# Altium integrated library Cypress PLD Delta39K.IntLib: 82 symbols (part 21 of 21)
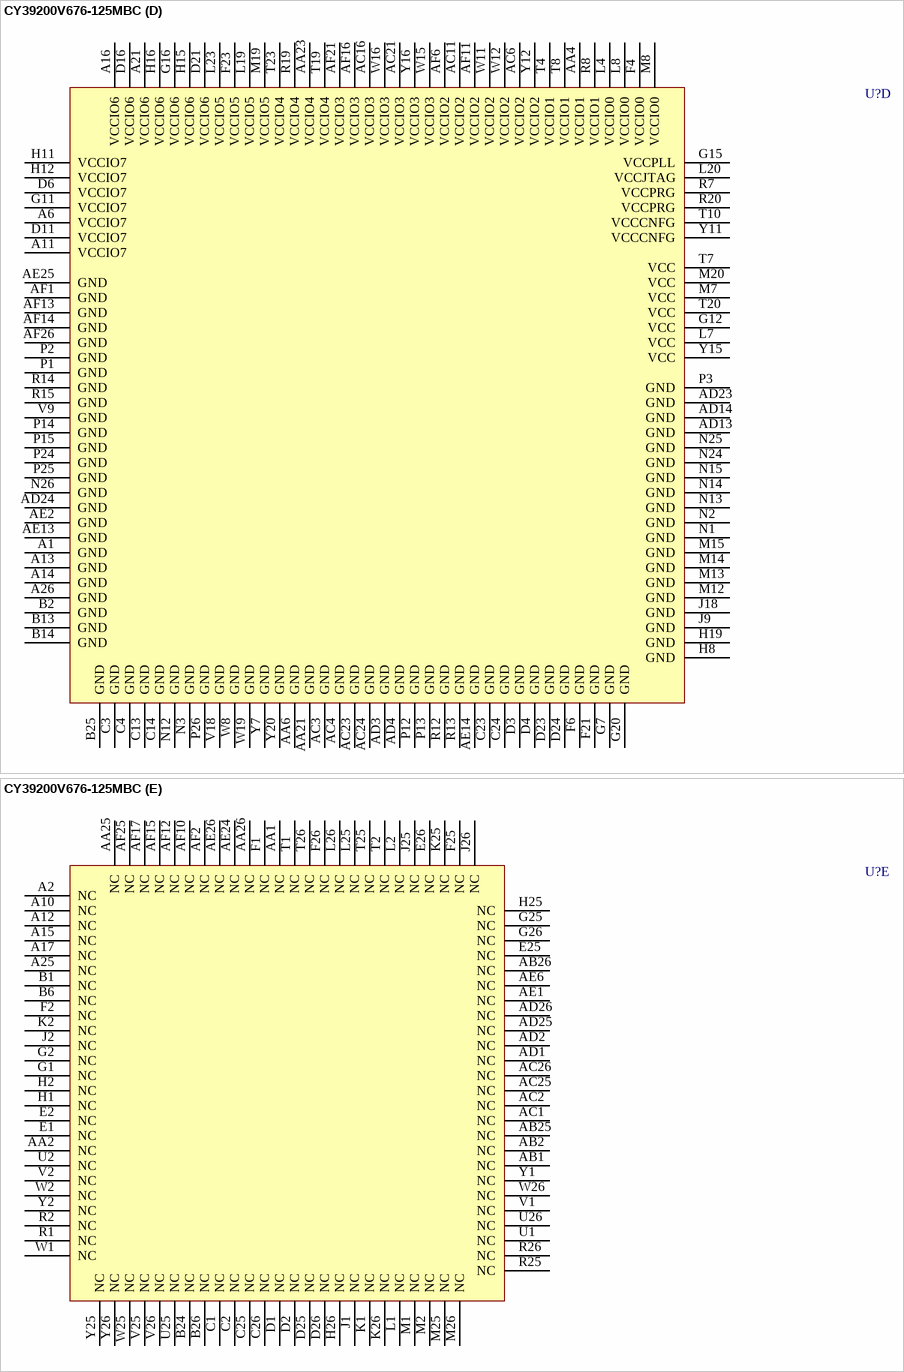
[diagram p98: symbol CY39200V676-125MBC]

## CY39200V676-125MBC
designator U?
Delta39K ISR CPLD, 3.3V/2.5V, 200K Gates, 125 MHz, 676-Ball FBGA, Commercial Grade; ComponentAvailability: Obsolete; Published: 11-Dec-2002; LatestRevisionDate: 13-Apr-2006; LatestRevisionNote: IPC-7351 Footprint Added.; DatasheetVersion: revI, Mar-2005; PackageVersion: Mar-2005; PackageReference: MB676; Publisher: Altium Limited; PackageDescription: 676-Ball Fine Pitch Ball Grid Array 1 mm Pitch; ComponentLink1Description: Manufacturer Link; ComponentLink1URL: http://www.cypress.com/; ComponentLink2Description: Datasheet; ComponentLink2URL: http://www.cypress.com/portal/server.pt/gateway/PTARGS_0_601270_1522_209_0_43/http%3B/sjapp20.mis.cypress.com%3B7001/publishedcontent/publish/design_resources/datasheets/contents/cy39030v_5.pdf
footprint MB676 (BGA, 676-Leads, Body 27x27mm, Pitch 1mm)
3D model CY39200V676-MB676 (676-Ball Fine Pitch Ball Grid Array 1 mm Pitch)
part A pins: A18 IO6 (io) "IO for Bank 6", A19 IO6 (io) "IO for Bank 6", A20 IO6 (io) "IO for Bank 6", A22 IO6 (io) "IO for Bank 6", A23 IO6 (io) "IO for Bank 6", A24 IO6 (io) "IO for Bank 6", AA8 IO2 (io) "IO for Bank 2", AA9 IO2 (io) "IO for Bank 2", AA10 IO2 (io) "IO for Bank 2", AA13 IO2 (io) "IO for Bank 2", AA14 IO2 (io) "IO for Bank 2", AA22 IO4 (io) "IO for Bank 4", AB3 IO2 (io) "IO for Bank 2", AB4 IO2 (io) "IO for Bank 2", AB5 IO2 (io) "IO for Bank 2", AB6 IO2 (io) "IO for Bank 2", AB7 IO2 (io) "IO for Bank 2", AB8 IO2 (io) "IO for Bank 2", AB9 IO2 (io) "IO for Bank 2", AB10 IO2 (io) "IO for Bank 2", AB11 IO2 (io) "IO for Bank 2", AB13 IO2 (io) "IO for Bank 2", AC5 IO2 (io) "IO for Bank 2", AC8 IO2 (io) "IO for Bank 2", AC9 IO2 (io) "IO for Bank 2", AC10 IO2 (io) "IO for Bank 2", AC12 IO2 (io) "IO for Bank 2", AC13 IO2 (io) "IO for Bank 2", AD7 IO2 (io) "IO for Bank 2", AD8 IO2 (io) "IO for Bank 2", AD9 IO2 (io) "IO for Bank 2", AD10 IO2 (io) "IO for Bank 2", AD11 IO2 (io) "IO for Bank 2", AD12 IO2 (io) "IO for Bank 2", AE3 IO2 (io) "IO for Bank 2", AE4 IO2 (io) "IO for Bank 2", AE5 IO2 (io) "IO for Bank 2", AE7 IO2 (io) "IO for Bank 2", AE8 IO2 (io) "IO for Bank 2", AE9 IO2 (io) "IO for Bank 2", AE10 IO2 (io) "IO for Bank 2", AE11 IO2 (io) "IO for Bank 2", AE12 IO2 (io) "IO for Bank 2", AF3 IO2 (io) "IO for Bank 2", AF4 IO2 (io) "IO for Bank 2", AF5 IO2 (io) "IO for Bank 2", AF7 IO2 (io) "IO for Bank 2", AF8 IO2 (io) "IO for Bank 2", AF9 IO2 (io) "IO for Bank 2", B15 IO6 (io) "IO for Bank 6", B16 IO6 (io) "IO for Bank 6", B17 IO6 (io) "IO for Bank 6", B18 IO6 (io) "IO for Bank 6", B19 IO6 (io) "IO for Bank 6", B20 IO6 (io) "IO for Bank 6", B22 IO6 (io) "IO for Bank 6", B23 IO6 (io) "IO for Bank 6", C15 IO6 (io) "IO for Bank 6", C16 IO6 (io) "IO for Bank 6", C17 IO6 (io) "IO for Bank 6", C18 IO6 (io) "IO for Bank 6", C19 IO6 (io) "IO for Bank 6", C20 IO6 (io) "IO for Bank 6", C22 IO6 (io) "IO for Bank 6", D14 IO6 (io) "IO for Bank 6", D15 IO6 (io) "IO for Bank 6", D18 IO6 (io) "IO for Bank 6", D19 IO6 (io) "IO for Bank 6", D20 IO6 (io) "IO for Bank 6", D22 IO6 (io) "IO for Bank 6", E14 IO6 (io) "IO for Bank 6", E16 IO6 (io) "IO for Bank 6", E17 IO6 (io) "IO for Bank 6", E18 IO6 (io) "IO for Bank 6", E19 IO6 (io) "IO for Bank 6", E20 IO6 (io) "IO for Bank 6", E21 IO6 (io) "IO for Bank 6", E22 IO6 (io) "IO for Bank 6", E23 IO6 (io) "IO for Bank 6", E24 IO6 (io) "IO for Bank 6", F5 IO0 (io) "IO for Bank 0", F13 IO6/Lock (io) "IO in Bank 6 or PLL lock output signal", F14 IO6 (io) "IO for Bank 6", F17 IO6 (io) "IO for Bank 6", F18 IO6 (io) "IO for Bank 6", F19 IO6 (io) "IO for Bank 6", F20 IO6 (io) "IO for Bank 6", G3 IO0 (io) "IO for Bank 0", G4 IO0 (io) "IO for Bank 0", G5 IO0 (io) "IO for Bank 0", G6 IO0 (io) "IO for Bank 0", G17 IO6 (io) "IO for Bank 6", G18 IO6 (io) "IO for Bank 6", G19 IO6 (io) "IO for Bank 6", H3 IO0 (io) "IO for Bank 0", H4 IO0 (io) "IO for Bank 0", H5 IO0 (io) "IO for Bank 0", H6 IO0 (io) "IO for Bank 0", H7 IO0 (io) "IO for Bank 0", H14 IO6 (io) "IO for Bank 6", H17 IO6 (io) "IO for Bank 6", H18 IO6 (io) "IO for Bank 6", J3 IO0 (io) "IO for Bank 0", J4 IO0 (io) "IO for Bank 0", J5 IO0 (io) "IO for Bank 0", J6 IO0 (io) "IO for Bank 0", J7 IO0 (io) "IO for Bank 0", J8 IO0 (io) "IO for Bank 0", J14 IO6 (io) "IO for Bank 6", J15 IO6 (io) "IO for Bank 6", J17 IO6 (io) "IO for Bank 6", K3 IO0 (io) "IO for Bank 0", K4 IO0 (io) "IO for Bank 0", K5 IO0 (io) "IO for Bank 0", K6 IO0 (io) "IO for Bank 0", K7 IO0 (io) "IO for Bank 0", K8 IO0 (io) "IO for Bank 0", K9 IO0 (io) "IO for Bank 0", K14 IO6 (io) "IO for Bank 6", K15 IO6 (io) "IO for Bank 6", K16 IO6 (io) "IO for Bank 6", L6 IO0 (io) "IO for Bank 0", L10 IO0 (io) "IO for Bank 0", M3 IO0 (io) "IO for Bank 0", M4 IO0 (io) "IO for Bank 0", M5 IO0 (io) "IO for Bank 0", M6 IO0 (io) "IO for Bank 0", M10 IO0 (io) "IO for Bank 0", N4 IO0 (io) "IO for Bank 0", N5 IO0 (io) "IO for Bank 0", N6 IO0 (io) "IO for Bank 0", N7 IO0 (io) "IO for Bank 0", N8 IO0 (io) "IO for Bank 0", N10 IO0 (io) "IO for Bank 0", P16 IO4 (io) "IO for Bank 4", P17 IO4 (io) "IO for Bank 4", P18 IO4 (io) "IO for Bank 4", P19 IO4 (io) "IO for Bank 4", P22 IO4 (io) "IO for Bank 4", P23 IO4 (io) "IO for Bank 4", R16 IO4 (io) "IO for Bank 4", R17 IO4 (io) "IO for Bank 4", R21 IO4 (io) "IO for Bank 4", R22 IO4 (io) "IO for Bank 4", R23 IO4 (io) "IO for Bank 4", R24 IO4 (io) "IO for Bank 4", T12 IO2 (io) "IO for Bank 2", T13 IO2 (io) "IO for Bank 2", T17 IO4 (io) "IO for Bank 4", T21 IO4 (io) "IO for Bank 4", U11 IO2 (io) "IO for Bank 2", U12 IO2 (io) "IO for Bank 2", U13 IO2 (io) "IO for Bank 2", U18 IO4 (io) "IO for Bank 4", U19 IO4 (io) "IO for Bank 4", U20 IO4 (io) "IO for Bank 4", U21 IO4 (io) "IO for Bank 4", U22 IO4 (io) "IO for Bank 4", U23 IO4 (io) "IO for Bank 4", U24 IO4 (io) "IO for Bank 4", V13 IO2 (io) "IO for Bank 2", V19 IO4 (io) "IO for Bank 4", V20 IO4 (io) "IO for Bank 4", V22 IO4 (io) "IO for Bank 4", V23 IO4 (io) "IO for Bank 4", V24 IO4 (io) "IO for Bank 4", W10 IO2 (io) "IO for Bank 2", W13 IO2 (io) "IO for Bank 2", W14 IO2 (io) "IO for Bank 2", W20 IO4 (io) "IO for Bank 4", W21 IO4 (io) "IO for Bank 4", W22 IO4 (io) "IO for Bank 4", W23 IO4 (io) "IO for Bank 4", W24 IO4 (io) "IO for Bank 4", Y9 IO2 (io) "IO for Bank 2", Y10 IO2 (io) "IO for Bank 2", Y13 IO2 (io) "IO for Bank 2", Y14 IO2 (io) "IO for Bank 2", Y21 IO4 (io) "IO for Bank 4", Y22 IO4 (io) "IO for Bank 4", Y23 IO4 (io) "IO for Bank 4", Y24 IO4 (io) "IO for Bank 4"
part B pins: A3 IO7 (io) "IO for Bank 7", A4 IO7 (io) "IO for Bank 7", A5 IO7 (io) "IO for Bank 7", A7 IO7 (io) "IO for Bank 7", A8 IO7 (io) "IO for Bank 7", A9 IO7 (io) "IO for Bank 7", AA5 IO1 (io) "IO for Bank 1", AA17 IO3 (io) "IO for Bank 3", AA18 IO3 (io) "IO for Bank 3", AA19 IO3 (io) "IO for Bank 3", AA20 IO3 (io) "IO for Bank 3", AB14 IO3 (io) "IO for Bank 3", AB16 IO3 (io) "IO for Bank 3", AB17 IO3 (io) "IO for Bank 3", AB18 IO3 (io) "IO for Bank 3", AB19 IO3 (io) "IO for Bank 3", AB20 IO3 (io) "IO for Bank 3", AB21 IO3 (io) "IO for Bank 3", AB22 IO3 (io) "IO for Bank 3", AB23 IO3 (io) "IO for Bank 3", AB24 IO3 (io) "IO for Bank 3", AC14 IO3 (io) "IO for Bank 3", AC15 IO3 (io) "IO for Bank 3", AC17 IO3 (io) "IO for Bank 3", AC18 IO3 (io) "IO for Bank 3", AC19 IO3 (io) "IO for Bank 3", AC22 IO3 (io) "IO for Bank 3", AD15 IO3 (io) "IO for Bank 3", AD16 IO3 (io) "IO for Bank 3", AD17 IO3 (io) "IO for Bank 3", AD18 IO3 (io) "IO for Bank 3", AD19 IO3 (io) "IO for Bank 3", AD20 IO3 (io) "IO for Bank 3", AD22 IO3 (io) "IO for Bank 3", AE15 IO3 (io) "IO for Bank 3", AE16 IO3 (io) "IO for Bank 3", AE17 IO3 (io) "IO for Bank 3", AE18 IO3 (io) "IO for Bank 3", AE19 IO3 (io) "IO for Bank 3", AE20 IO3 (io) "IO for Bank 3", AE22 IO3 (io) "IO for Bank 3", AE23 IO3 (io) "IO for Bank 3", AF18 IO3 (io) "IO for Bank 3", AF19 IO3 (io) "IO for Bank 3", AF20 IO3 (io) "IO for Bank 3", AF22 IO3 (io) "IO for Bank 3", AF23 IO3 (io) "IO for Bank 3", AF24 IO3 (io) "IO for Bank 3", B3 IO7 (io) "IO for Bank 7", B4 IO7 (io) "IO for Bank 7", B5 IO7 (io) "IO for Bank 7", B7 IO7 (io) "IO for Bank 7", B8 IO7 (io) "IO for Bank 7", B9 IO7 (io) "IO for Bank 7", B10 IO7 (io) "IO for Bank 7", B11 IO7 (io) "IO for Bank 7", B12 IO7 (io) "IO for Bank 7", C7 IO7 (io) "IO for Bank 7", C8 IO7 (io) "IO for Bank 7", C9 IO7 (io) "IO for Bank 7", C10 IO7 (io) "IO for Bank 7", C11 IO7 (io) "IO for Bank 7", C12 IO7 (io) "IO for Bank 7", D5 IO7 (io) "IO for Bank 7", D7 IO7 (io) "IO for Bank 7", D8 IO7 (io) "IO for Bank 7", D9 IO7 (io) "IO for Bank 7", D12 IO7 (io) "IO for Bank 7", D13 IO7 (io) "IO for Bank 7", E3 IO7 (io) "IO for Bank 7", E4 IO7 (io) "IO for Bank 7", E5 IO7 (io) "IO for Bank 7", E6 IO7 (io) "IO for Bank 7", E7 IO7 (io) "IO for Bank 7", E8 IO7 (io) "IO for Bank 7", E9 IO7 (io) "IO for Bank 7", E10 IO7 (io) "IO for Bank 7", E11 IO7 (io) "IO for Bank 7", E13 IO7 (io) "IO for Bank 7", F7 IO7 (io) "IO for Bank 7", F8 IO7 (io) "IO for Bank 7", F9 IO7 (io) "IO for Bank 7", F10 IO7 (io) "IO for Bank 7", F22 IO5 (io) "IO for Bank 5", G8 IO7 (io) "IO for Bank 7", G9 IO7 (io) "IO for Bank 7", G10 IO7 (io) "IO for Bank 7", G22 IO5 (io) "IO for Bank 5", G23 IO5 (io) "IO for Bank 5", G24 IO5 (io) "IO for Bank 5", H9 IO7 (io) "IO for Bank 7", H10 IO7 (io) "IO for Bank 7", H13 IO7 (io) "IO for Bank 7", H21 IO5 (io) "IO for Bank 5", H22 IO5 (io) "IO for Bank 5", H23 IO5 (io) "IO for Bank 5", H24 IO5 (io) "IO for Bank 5", J10 IO7 (io) "IO for Bank 7", J12 IO7 (io) "IO for Bank 7", J13 IO7 (io) "IO for Bank 7", J20 IO5 (io) "IO for Bank 5", J21 IO5 (io) "IO for Bank 5", J22 IO5 (io) "IO for Bank 5", J23 IO5 (io) "IO for Bank 5", J24 IO5 (io) "IO for Bank 5", K10 IO7 (io) "IO for Bank 7", K11 IO7 (io) "IO for Bank 7", K12 IO7 (io) "IO for Bank 7", K13 IO7 (io) "IO for Bank 7", K18 IO5 (io) "IO for Bank 5", K19 IO5 (io) "IO for Bank 5", K20 IO5 (io) "IO for Bank 5", K21 IO5 (io) "IO for Bank 5", K22 IO5 (io) "IO for Bank 5", K23 IO5 (io) "IO for Bank 5", K24 IO5 (io) "IO for Bank 5", L11 IO7 (io) "IO for Bank 7", L16 IO5 (io) "IO for Bank 5", L17 IO5 (io) "IO for Bank 5", L21 IO5 (io) "IO for Bank 5", M17 IO5 (io) "IO for Bank 5", M21 IO5 (io) "IO for Bank 5", M22 IO5 (io) "IO for Bank 5", M23 IO5 (io) "IO for Bank 5", M24 IO5 (io) "IO for Bank 5", N17 IO5 (io) "IO for Bank 5", N19 IO5 (io) "IO for Bank 5", N20 IO5 (io) "IO for Bank 5", N21 IO5 (io) "IO for Bank 5", N22 IO5 (io) "IO for Bank 5", N23 IO5 (io) "IO for Bank 5", P4 IO1 (io) "IO for Bank 1", P5 IO1 (io) "IO for Bank 1", P6 IO1 (io) "IO for Bank 1", P7 IO1 (io) "IO for Bank 1", P8 IO1 (io) "IO for Bank 1", P9 IO1 (io) "IO for Bank 1", P10 IO1 (io) "IO for Bank 1", P11 IO1 (io) "IO for Bank 1", P20 IO5 (io) "IO for Bank 5", P21 IO5 (io) "IO for Bank 5", R3 IO1 (io) "IO for Bank 1", R4 IO1 (io) "IO for Bank 1", R5 IO1 (io) "IO for Bank 1", R6 IO1 (io) "IO for Bank 1", R10 IO1 (io) "IO for Bank 1", R11 IO1 (io) "IO for Bank 1", T6 IO1 (io) "IO for Bank 1", T14 IO3 (io) "IO for Bank 3", T15 IO3 (io) "IO for Bank 3", T16 IO3 (io) "IO for Bank 3", U3 IO1 (io) "IO for Bank 1", U4 IO1 (io) "IO for Bank 1", U5 IO1 (io) "IO for Bank 1", U6 IO1 (io) "IO for Bank 1", U7 IO1 (io) "IO for Bank 1", U8 IO1 (io) "IO for Bank 1", U14 IO3 (io) "IO for Bank 3", U15 IO3 (io) "IO for Bank 3", U16 IO3 (io) "IO for Bank 3", U17 IO3 (io) "IO for Bank 3", V3 IO1 (io) "IO for Bank 1", V4 IO1 (io) "IO for Bank 1", V5 IO1 (io) "IO for Bank 1", V7 IO1 (io) "IO for Bank 1", V8 IO1 (io) "IO for Bank 1", V14 IO3 (io) "IO for Bank 3", V17 IO3 (io) "IO for Bank 3", W3 IO1 (io) "IO for Bank 1", W4 IO1 (io) "IO for Bank 1", W5 IO1 (io) "IO for Bank 1", W6 IO1 (io) "IO for Bank 1", W7 IO1 (io) "IO for Bank 1", W17 IO3 (io) "IO for Bank 3", W18 IO3 (io) "IO for Bank 3", Y3 IO1 (io) "IO for Bank 1", Y4 IO1 (io) "IO for Bank 1", Y5 IO1 (io) "IO for Bank 1", Y6 IO1 (io) "IO for Bank 1", Y17 IO3 (io) "IO for Bank 3", Y18 IO3 (io) "IO for Bank 3", Y19 IO3 (io) "IO for Bank 3"
part C pins: AA3 IO/VREF1 (io) "IO or Reference Voltage for Bank 1", AA7 Reset (out) "Reset signal to interface with the external boot PROM", AA11 IO/VREF2 (io) "IO or Reference Voltage for Bank 2", AA12 IO/VREF2 (io) "IO or Reference Voltage for Bank 2", AA15 IO/VREF3 (io) "IO or Reference Voltage for Bank 3", AA16 IO/VREF3 (io) "IO or Reference Voltage for Bank 3", AA24 IO/VREF4 (io) "IO or Reference Voltage for Bank 4", AB12 IO/VREF2 (io) "IO or Reference Voltage for Bank 2", AB15 IO/VREF3 (io) "IO or Reference Voltage for Bank 3", AC7 IO/VREF2 (io) "IO or Reference Voltage for Bank 2", AC20 IO/VREF3 (io) "IO or Reference Voltage for Bank 3", AD5 IO/VREF2 (io) "IO or Reference Voltage for Bank 2", AD6 IO/VREF2 (io) "IO or Reference Voltage for Bank 2", AD21 IO/VREF3 (io) "IO or Reference Voltage for Bank 3", AE21 IO/VREF3 (io) "IO or Reference Voltage for Bank 3", B21 IO/VREF6 (io) "IO or Reference Voltage for Bank 6", C5 IO/VREF7 (io) "IO or Reference Voltage for Bank 7", C6 IO/VREF7 (io) "IO or Reference Voltage for Bank 7", C21 IO/VREF6 (io) "IO or Reference Voltage for Bank 6", D10 IO/VREF7 (io) "IO or Reference Voltage for Bank 7", D17 IO/VREF6 (io) "IO or Reference Voltage for Bank 6", E12 IO/VREF7 (io) "IO or Reference Voltage for Bank 7", E15 IO/VREF6 (io) "IO or Reference Voltage for Bank 6", F3 IO/VREF0 (io) "IO or Reference Voltage for Bank 0", F11 IO/VREF7 (io) "IO or Reference Voltage for Bank 7", F12 IO/VREF7 (io) "IO or Reference Voltage for Bank 7", F15 IO/VREF6 (io) "IO or Reference Voltage for Bank 6", F16 IO/VREF6 (io) "IO or Reference Voltage for Bank 6", F24 IO/VREF5 (io) "IO or Reference Voltage for Bank 5", G13 IO/VREF7 (io) "IO or Reference Voltage for Bank 7", G14 IO/VREF6 (io) "IO or Reference Voltage for Bank 6", G21 TDO (out) "JTAG Test Data Out", H20 TDI (in) "JTAG Test Data In", J11 IO/VREF7 (io) "IO or Reference Voltage for Bank 7", J16 IO/VREF6 (io) "IO or Reference Voltage for Bank 6", J19 TCLK (in) "JTAG Test Clock", K17 TMS (in) "JTAG Test Mode Select", L3 IO/VREF0 (io) "IO or Reference Voltage for Bank 0", L5 IO/VREF0 (io) "IO or Reference Voltage for Bank 0", L9 IO/VREF0 (io) "IO or Reference Voltage for Bank 0", L12 GCTL3 (in) "Global Control signal 3", L13 GCLK3 (in) "Global Clock signal 3", L14 GCTL2 (in) "Global Control signal 2", L15 GCLK2 (in) "Global Clock signal 2", L18 IO/VREF5 (io) "IO or Reference Voltage for Bank 5", L22 IO/VREF5 (io) "IO or Reference Voltage for Bank 5", L24 IO/VREF5 (io) "IO or Reference Voltage for Bank 5", M9 IO/VREF0 (io) "IO or Reference Voltage for Bank 0", M11 GCTL0 (in) "Global Control signal 0", M16 GCTL1 (in) "Global Control signal 1", M18 IO/VREF5 (io) "IO or Reference Voltage for Bank 5", N9 IO/VREF0 (io) "IO or Reference Voltage for Bank 0", N11 GCLK0 (in) "Global Clock signal 0", N16 GCLK1 (in) "Global Clock signal 1", N18 IO/VREF5 (io) "IO or Reference Voltage for Bank 5", R9 IO/VREF1 (io) "IO or Reference Voltage for Bank 1", R18 IO/VREF4 (io) "IO or Reference Voltage for Bank 4", T3 IO/VREF1 (io) "IO or Reference Voltage for Bank 1", T5 IO/VREF1 (io) "IO or Reference Voltage for Bank 1", T9 IO/VREF1 (io) "IO or Reference Voltage for Bank 1", T11 Config_Done (out) "Flag indicating that configuration is complete", T18 IO/VREF4 (io) "IO or Reference Voltage for Bank 4", T22 IO/VREF4 (io) "IO or Reference Voltage for Bank 4", T24 IO/VREF4 (io) "IO or Reference Voltage for Bank 4", U9 Data (in) "Pin to receive configuration data from the external boot PROM", U10 Reconfig (in) "Pin to start configuration of Delta39K", V6 IO/VREF1 (io) "IO or Reference Voltage for Bank 1", V10 MSEL (in) "Mode Select Pin", V11 IO/VREF2 (io) "IO or Reference Voltage for Bank 2", V12 IO/VREF2 (io) "IO or Reference Voltage for Bank 2", V15 IO/VREF3 (io) "IO or Reference Voltage for Bank 3", V16 IO/VREF3 (io) "IO or Reference Voltage for Bank 3", V21 IO/VREF4 (io) "IO or Reference Voltage for Bank 4", W9 ~{CCE} (out) "Chip select for the external boot PROM (active low)", Y8 CCLK (out) "Configuration Clock for serial interface with the external boot PROM"
part D pins: A1 GND (power) "Ground", A6 VCCIO7 (power) "VCC for I/O bank 7", A11 VCCIO7 (power) "VCC for I/O bank 7", A13 GND (power) "Ground", A14 GND (power) "Ground", A16 VCCIO6 (power) "VCC for I/O bank 6", A21 VCCIO6 (power) "VCC for I/O bank 6", A26 GND (power) "Ground", AA4 VCCIO1 (power) "VCC for I/O bank 1", AA6 GND (power) "Ground", AA21 GND (power) "Ground", AA23 VCCIO4 (power) "VCC for I/O bank 4", AC3 GND (power) "Ground", AC4 GND (power) "Ground", AC6 VCCIO2 (power) "VCC for I/O bank 2", AC11 VCCIO2 (power) "VCC for I/O bank 2", AC16 VCCIO3 (power) "VCC for I/O bank 3", AC21 VCCIO3 (power) "VCC for I/O bank 3", AC23 GND (power) "Ground", AC24 GND (power) "Ground", AD3 GND (power) "Ground", AD4 GND (power) "Ground", AD13 GND (power) "Ground", AD14 GND (power) "Ground", AD23 GND (power) "Ground", AD24 GND (power) "Ground", AE2 GND (power) "Ground", AE13 GND (power) "Ground", AE14 GND (power) "Ground", AE25 GND (power) "Ground", AF1 GND (power) "Ground", AF6 VCCIO2 (power) "VCC for I/O bank 2", AF11 VCCIO2 (power) "VCC for I/O bank 2", AF13 GND (power) "Ground", AF14 GND (power) "Ground", AF16 VCCIO3 (power) "VCC for I/O bank 3", AF21 VCCIO3 (power) "VCC for I/O bank 3", AF26 GND (power) "Ground", B2 GND (power) "Ground", B13 GND (power) "Ground", B14 GND (power) "Ground", B25 GND (power) "Ground", C3 GND (power) "Ground", C4 GND (power) "Ground", C13 GND (power) "Ground", C14 GND (power) "Ground", C23 GND (power) "Ground", C24 GND (power) "Ground", D3 GND (power) "Ground", D4 GND (power) "Ground", D6 VCCIO7 (power) "VCC for I/O bank 7", D11 VCCIO7 (power) "VCC for I/O bank 7", D16 VCCIO6 (power) "VCC for I/O bank 6", D21 VCCIO6 (power) "VCC for I/O bank 6", D23 GND (power) "Ground", D24 GND (power) "Ground", F4 VCCIO0 (power) "VCC for I/O bank 0", F6 GND (power) "Ground", F21 GND (power) "Ground", F23 VCCIO5 (power) "VCC for I/O bank 5", G7 GND (power) "Ground", G11 VCCIO7 (power) "VCC for I/O bank 7", G12 VCC (power) "Operating Voltage", G15 VCCPLL (power) "VCC for PLL", G16 VCCIO6 (power) "VCC for I/O bank 6", G20 GND (power) "Ground", H8 GND (power) "Ground", H11 VCCIO7 (power) "VCC for I/O bank 7", H12 VCCIO7 (power) "VCC for I/O bank 7", H15 VCCIO6 (power) "VCC for I/O bank 6", H16 VCCIO6 (power) "VCC for I/O bank 6", H19 GND (power) "Ground", J9 GND (power) "Ground", J18 GND (power) "Ground", L4 VCCIO0 (power) "VCC for I/O bank 0", L7 VCC (power) "Operating Voltage", L8 VCCIO0 (power) "VCC for I/O bank 0", L19 VCCIO5 (power) "VCC for I/O bank 5", L20 VCCJTAG (power) "VCC for JTAG pins", L23 VCCIO5 (power) "VCC for I/O bank 5", M7 VCC (power) "Operating Voltage", M8 VCCIO0 (power) "VCC for I/O bank 0", M12 GND (power) "Ground", M13 GND (power) "Ground", M14 GND (power) "Ground", M15 GND (power) "Ground", M19 VCCIO5 (power) "VCC for I/O bank 5", M20 VCC (power) "Operating Voltage", N1 GND (power) "Ground", N2 GND (power) "Ground", N3 GND (power) "Ground", N12 GND (power) "Ground", N13 GND (power) "Ground", N14 GND (power) "Ground", N15 GND (power) "Ground", N24 GND (power) "Ground", N25 GND (power) "Ground", N26 GND (power) "Ground", P1 GND (power) "Ground", P2 GND (power) "Ground", P3 GND (power) "Ground", P12 GND (power) "Ground", P13 GND (power) "Ground", P14 GND (power) "Ground", P15 GND (power) "Ground", P24 GND (power) "Ground", P25 GND (power) "Ground", P26 GND (power) "Ground", R7 VCCPRG (power) "VCC for programming Self-Boot solution embedded boot PROM", R8 VCCIO1 (power) "VCC for I/O bank 1", R12 GND (power) "Ground", R13 GND (power) "Ground", R14 GND (power) "Ground", R15 GND (power) "Ground", R19 VCCIO4 (power) "VCC for I/O bank 4", R20 VCCPRG (power) "VCC for programming Self-Boot solution embedded boot PROM", T4 VCCIO1 (power) "VCC for I/O bank 1", T7 VCC (power) "Operating Voltage", T8 VCCIO1 (power) "VCC for I/O bank 1", T10 VCCCNFG (power) "VCC for Configuration port", T19 VCCIO4 (power) "VCC for I/O bank 4", T20 VCC (power) "Operating Voltage", T23 VCCIO4 (power) "VCC for I/O bank 4", V9 GND (power) "Ground", V18 GND (power) "Ground", W8 GND (power) "Ground", W11 VCCIO2 (power) "VCC for I/O bank 2", W12 VCCIO2 (power) "VCC for I/O bank 2", W15 VCCIO3 (power) "VCC for I/O bank 3", W16 VCCIO3 (power) "VCC for I/O bank 3", W19 GND (power) "Ground", Y7 GND (power) "Ground", Y11 VCCCNFG (power) "VCC for Configuration port", Y12 VCCIO2 (power) "VCC for I/O bank 2", Y15 VCC (power) "Operating Voltage", Y16 VCCIO3 (power) "VCC for I/O bank 3", Y20 GND (power) "Ground"
part E pins: A2 NC "No Connection", A10 NC "No Connection", A12 NC "No Connection", A15 NC "No Connection", A17 NC "No Connection", A25 NC "No Connection", AA1 NC "No Connection", AA2 NC "No Connection", AA25 NC "No Connection", AA26 NC "No Connection", AB1 NC "No Connection", AB2 NC "No Connection", AB25 NC "No Connection", AB26 NC "No Connection", AC1 NC "No Connection", AC2 NC "No Connection", AC25 NC "No Connection", AC26 NC "No Connection", AD1 NC "No Connection", AD2 NC "No Connection", AD25 NC "No Connection", AD26 NC "No Connection", AE1 NC "No Connection", AE6 NC "No Connection", AE24 NC "No Connection", AE26 NC "No Connection", AF2 NC "No Connection", AF10 NC "No Connection", AF12 NC "No Connection", AF15 NC "No Connection", AF17 NC "No Connection", AF25 NC "No Connection", B1 NC "No Connection", B6 NC "No Connection", B24 NC "No Connection", B26 NC "No Connection", C1 NC "No Connection", C2 NC "No Connection", C25 NC "No Connection", C26 NC "No Connection", D1 NC "No Connection", D2 NC "No Connection", D25 NC "No Connection", D26 NC "No Connection", E1 NC "No Connection", E2 NC "No Connection", E25 NC "No Connection", E26 NC "No Connection", F1 NC "No Connection", F2 NC "No Connection", F25 NC "No Connection", F26 NC "No Connection", G1 NC "No Connection", G2 NC "No Connection", G25 NC "No Connection", G26 NC "No Connection", H1 NC "No Connection", H2 NC "No Connection", H25 NC "No Connection", H26 NC "No Connection", J1 NC "No Connection", J2 NC "No Connection", J25 NC "No Connection", J26 NC "No Connection", K1 NC "No Connection", K2 NC "No Connection", K25 NC "No Connection", K26 NC "No Connection", L1 NC "No Connection", L2 NC "No Connection", L25 NC "No Connection", L26 NC "No Connection", M1 NC "No Connection", M2 NC "No Connection", M25 NC "No Connection", M26 NC "No Connection", R1 NC "No Connection", R2 NC "No Connection", R25 NC "No Connection", R26 NC "No Connection", T1 NC "No Connection", T2 NC "No Connection", T25 NC "No Connection", T26 NC "No Connection", U1 NC "No Connection", U2 NC "No Connection", U25 NC "No Connection", U26 NC "No Connection", V1 NC "No Connection", V2 NC "No Connection", V25 NC "No Connection", V26 NC "No Connection", W1 NC "No Connection", W2 NC "No Connection", W25 NC "No Connection", W26 NC "No Connection", Y1 NC "No Connection", Y2 NC "No Connection", Y25 NC "No Connection", Y26 NC "No Connection"

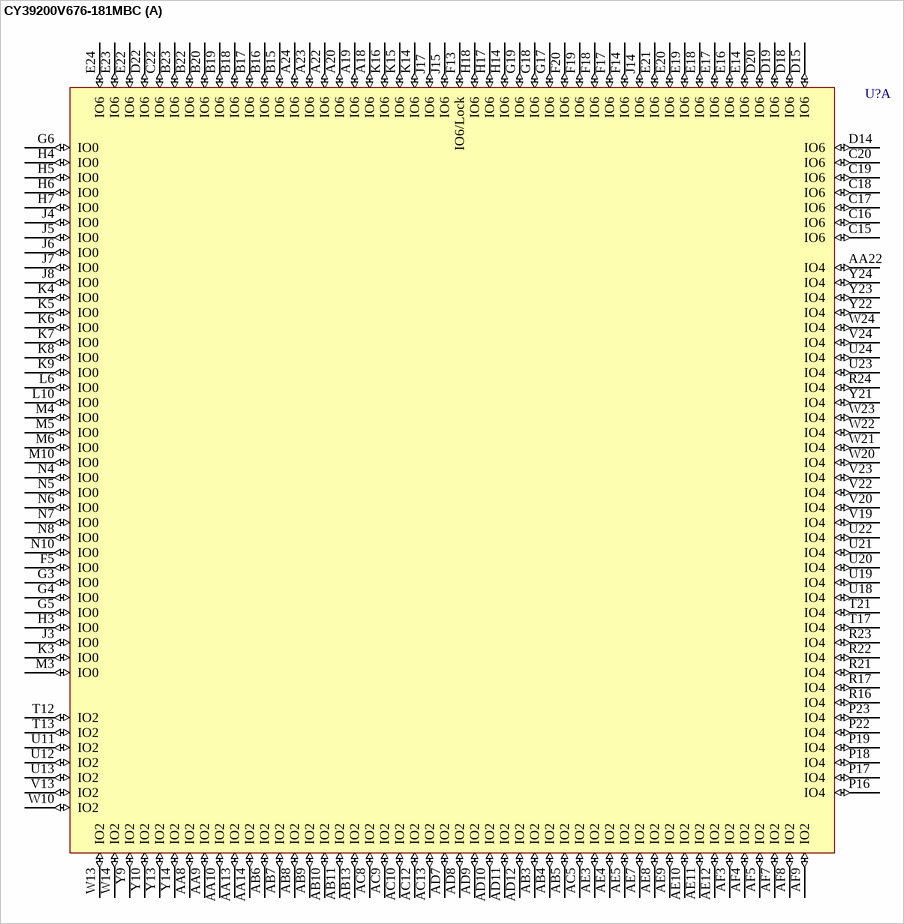
[diagram p76: symbol CY39200V676-181MBC]

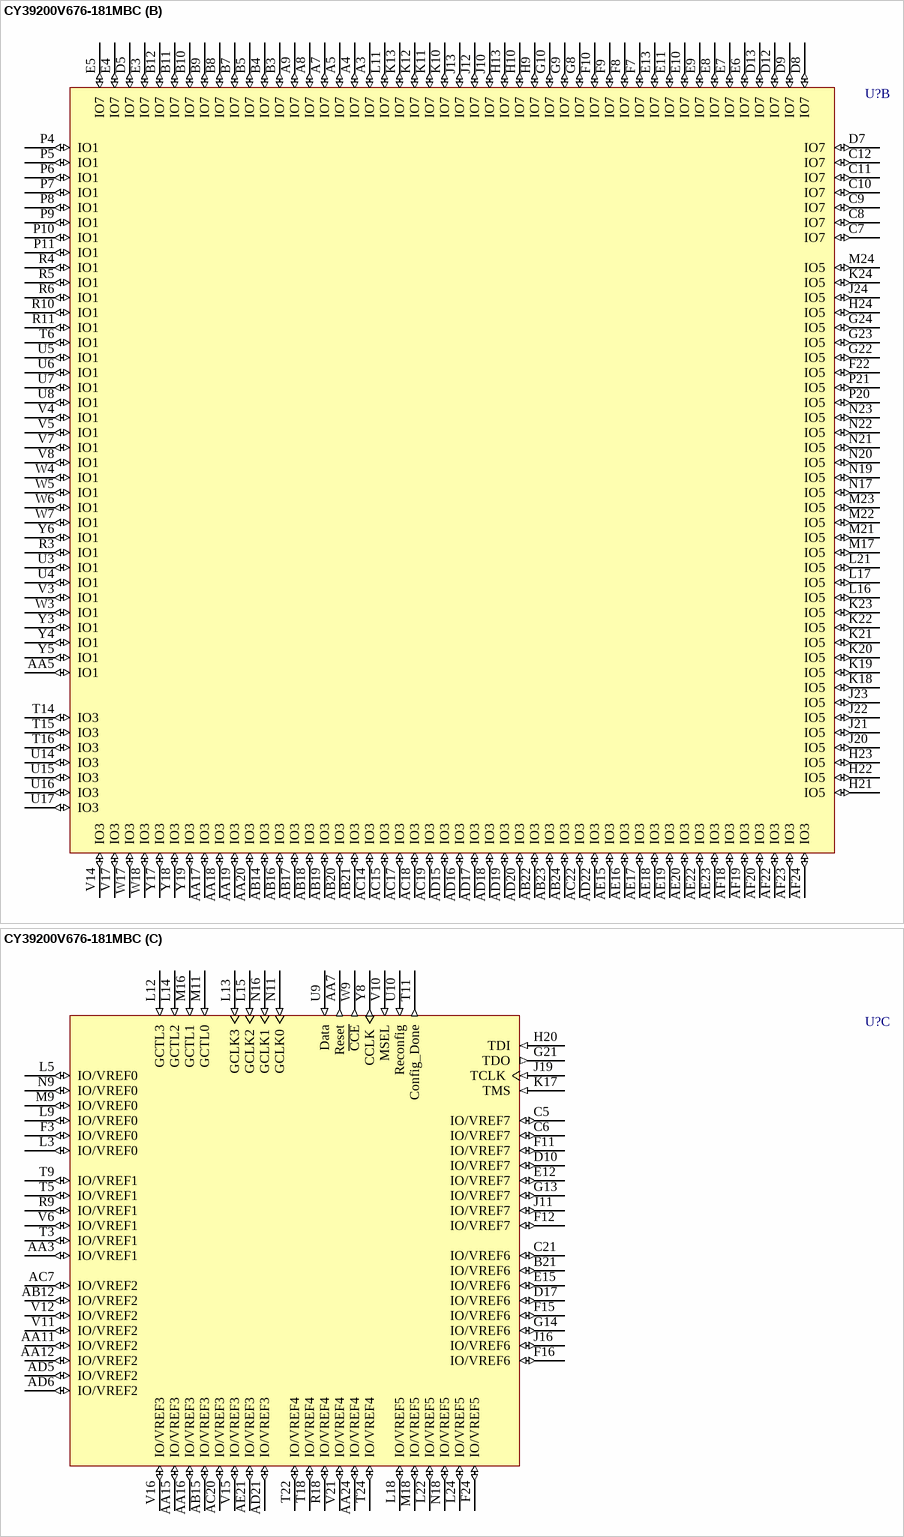
[diagram p77: symbol CY39200V676-181MBC]

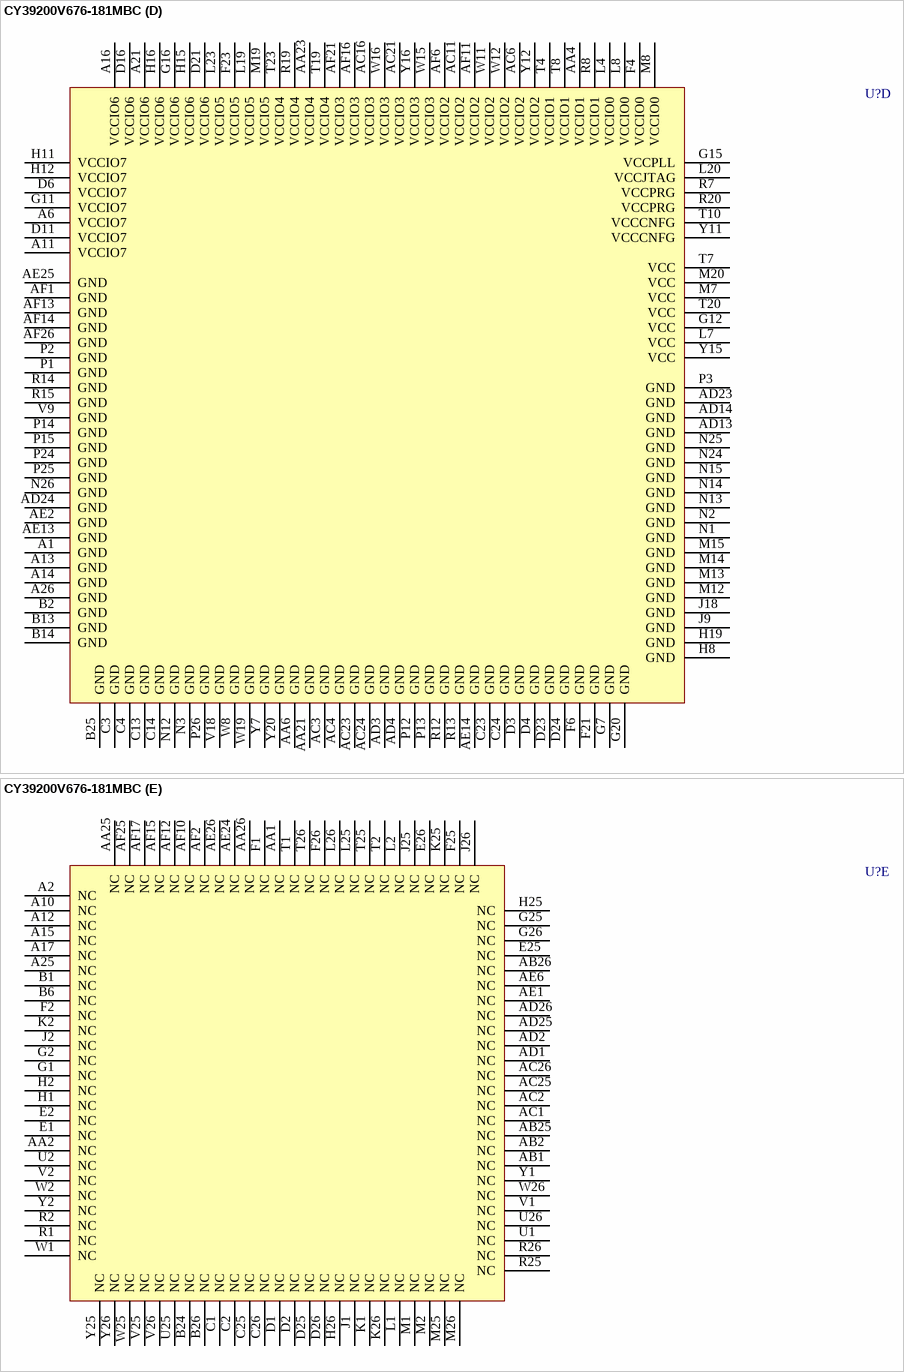
[diagram p78: symbol CY39200V676-181MBC]

## CY39200V676-181MBC
designator U?
Delta39K ISR CPLD, 3.3V/2.5V, 200K Gates, 181 MHz, 676-Ball FBGA, Commercial Grade; Published: 6-Oct-2005; LatestRevisionDate: 13-Apr-2006; LatestRevisionNote: IPC-7351 Footprint Added.; DatasheetVersion: revI, Mar-2005; PackageVersion: Mar-2005; PackageReference: MB676; Publisher: Altium Limited; PackageDescription: 676-Ball Fine Pitch Ball Grid Array 1 mm Pitch; ComponentLink1Description: Manufacturer Link; ComponentLink1URL: http://www.cypress.com/; ComponentLink2Description: Datasheet; ComponentLink2URL: http://www.cypress.com/portal/server.pt/gateway/PTARGS_0_601270_1522_209_0_43/http%3B/sjapp20.mis.cypress.com%3B7001/publishedcontent/publish/design_resources/datasheets/contents/cy39030v_5.pdf
footprint MB676 (BGA, 676-Leads, Body 27x27mm, Pitch 1mm)
3D model CY39200V676-MB676 (676-Ball Fine Pitch Ball Grid Array 1 mm Pitch)
part A pins: A18 IO6 (io) "IO for Bank 6", A19 IO6 (io) "IO for Bank 6", A20 IO6 (io) "IO for Bank 6", A22 IO6 (io) "IO for Bank 6", A23 IO6 (io) "IO for Bank 6", A24 IO6 (io) "IO for Bank 6", AA8 IO2 (io) "IO for Bank 2", AA9 IO2 (io) "IO for Bank 2", AA10 IO2 (io) "IO for Bank 2", AA13 IO2 (io) "IO for Bank 2", AA14 IO2 (io) "IO for Bank 2", AA22 IO4 (io) "IO for Bank 4", AB3 IO2 (io) "IO for Bank 2", AB4 IO2 (io) "IO for Bank 2", AB5 IO2 (io) "IO for Bank 2", AB6 IO2 (io) "IO for Bank 2", AB7 IO2 (io) "IO for Bank 2", AB8 IO2 (io) "IO for Bank 2", AB9 IO2 (io) "IO for Bank 2", AB10 IO2 (io) "IO for Bank 2", AB11 IO2 (io) "IO for Bank 2", AB13 IO2 (io) "IO for Bank 2", AC5 IO2 (io) "IO for Bank 2", AC8 IO2 (io) "IO for Bank 2", AC9 IO2 (io) "IO for Bank 2", AC10 IO2 (io) "IO for Bank 2", AC12 IO2 (io) "IO for Bank 2", AC13 IO2 (io) "IO for Bank 2", AD7 IO2 (io) "IO for Bank 2", AD8 IO2 (io) "IO for Bank 2", AD9 IO2 (io) "IO for Bank 2", AD10 IO2 (io) "IO for Bank 2", AD11 IO2 (io) "IO for Bank 2", AD12 IO2 (io) "IO for Bank 2", AE3 IO2 (io) "IO for Bank 2", AE4 IO2 (io) "IO for Bank 2", AE5 IO2 (io) "IO for Bank 2", AE7 IO2 (io) "IO for Bank 2", AE8 IO2 (io) "IO for Bank 2", AE9 IO2 (io) "IO for Bank 2", AE10 IO2 (io) "IO for Bank 2", AE11 IO2 (io) "IO for Bank 2", AE12 IO2 (io) "IO for Bank 2", AF3 IO2 (io) "IO for Bank 2", AF4 IO2 (io) "IO for Bank 2", AF5 IO2 (io) "IO for Bank 2", AF7 IO2 (io) "IO for Bank 2", AF8 IO2 (io) "IO for Bank 2", AF9 IO2 (io) "IO for Bank 2", B15 IO6 (io) "IO for Bank 6", B16 IO6 (io) "IO for Bank 6", B17 IO6 (io) "IO for Bank 6", B18 IO6 (io) "IO for Bank 6", B19 IO6 (io) "IO for Bank 6", B20 IO6 (io) "IO for Bank 6", B22 IO6 (io) "IO for Bank 6", B23 IO6 (io) "IO for Bank 6", C15 IO6 (io) "IO for Bank 6", C16 IO6 (io) "IO for Bank 6", C17 IO6 (io) "IO for Bank 6", C18 IO6 (io) "IO for Bank 6", C19 IO6 (io) "IO for Bank 6", C20 IO6 (io) "IO for Bank 6", C22 IO6 (io) "IO for Bank 6", D14 IO6 (io) "IO for Bank 6", D15 IO6 (io) "IO for Bank 6", D18 IO6 (io) "IO for Bank 6", D19 IO6 (io) "IO for Bank 6", D20 IO6 (io) "IO for Bank 6", D22 IO6 (io) "IO for Bank 6", E14 IO6 (io) "IO for Bank 6", E16 IO6 (io) "IO for Bank 6", E17 IO6 (io) "IO for Bank 6", E18 IO6 (io) "IO for Bank 6", E19 IO6 (io) "IO for Bank 6", E20 IO6 (io) "IO for Bank 6", E21 IO6 (io) "IO for Bank 6", E22 IO6 (io) "IO for Bank 6", E23 IO6 (io) "IO for Bank 6", E24 IO6 (io) "IO for Bank 6", F5 IO0 (io) "IO for Bank 0", F13 IO6/Lock (io) "IO in Bank 6 or PLL lock output signal", F14 IO6 (io) "IO for Bank 6", F17 IO6 (io) "IO for Bank 6", F18 IO6 (io) "IO for Bank 6", F19 IO6 (io) "IO for Bank 6", F20 IO6 (io) "IO for Bank 6", G3 IO0 (io) "IO for Bank 0", G4 IO0 (io) "IO for Bank 0", G5 IO0 (io) "IO for Bank 0", G6 IO0 (io) "IO for Bank 0", G17 IO6 (io) "IO for Bank 6", G18 IO6 (io) "IO for Bank 6", G19 IO6 (io) "IO for Bank 6", H3 IO0 (io) "IO for Bank 0", H4 IO0 (io) "IO for Bank 0", H5 IO0 (io) "IO for Bank 0", H6 IO0 (io) "IO for Bank 0", H7 IO0 (io) "IO for Bank 0", H14 IO6 (io) "IO for Bank 6", H17 IO6 (io) "IO for Bank 6", H18 IO6 (io) "IO for Bank 6", J3 IO0 (io) "IO for Bank 0", J4 IO0 (io) "IO for Bank 0", J5 IO0 (io) "IO for Bank 0", J6 IO0 (io) "IO for Bank 0", J7 IO0 (io) "IO for Bank 0", J8 IO0 (io) "IO for Bank 0", J14 IO6 (io) "IO for Bank 6", J15 IO6 (io) "IO for Bank 6", J17 IO6 (io) "IO for Bank 6", K3 IO0 (io) "IO for Bank 0", K4 IO0 (io) "IO for Bank 0", K5 IO0 (io) "IO for Bank 0", K6 IO0 (io) "IO for Bank 0", K7 IO0 (io) "IO for Bank 0", K8 IO0 (io) "IO for Bank 0", K9 IO0 (io) "IO for Bank 0", K14 IO6 (io) "IO for Bank 6", K15 IO6 (io) "IO for Bank 6", K16 IO6 (io) "IO for Bank 6", L6 IO0 (io) "IO for Bank 0", L10 IO0 (io) "IO for Bank 0", M3 IO0 (io) "IO for Bank 0", M4 IO0 (io) "IO for Bank 0", M5 IO0 (io) "IO for Bank 0", M6 IO0 (io) "IO for Bank 0", M10 IO0 (io) "IO for Bank 0", N4 IO0 (io) "IO for Bank 0", N5 IO0 (io) "IO for Bank 0", N6 IO0 (io) "IO for Bank 0", N7 IO0 (io) "IO for Bank 0", N8 IO0 (io) "IO for Bank 0", N10 IO0 (io) "IO for Bank 0", P16 IO4 (io) "IO for Bank 4", P17 IO4 (io) "IO for Bank 4", P18 IO4 (io) "IO for Bank 4", P19 IO4 (io) "IO for Bank 4", P22 IO4 (io) "IO for Bank 4", P23 IO4 (io) "IO for Bank 4", R16 IO4 (io) "IO for Bank 4", R17 IO4 (io) "IO for Bank 4", R21 IO4 (io) "IO for Bank 4", R22 IO4 (io) "IO for Bank 4", R23 IO4 (io) "IO for Bank 4", R24 IO4 (io) "IO for Bank 4", T12 IO2 (io) "IO for Bank 2", T13 IO2 (io) "IO for Bank 2", T17 IO4 (io) "IO for Bank 4", T21 IO4 (io) "IO for Bank 4", U11 IO2 (io) "IO for Bank 2", U12 IO2 (io) "IO for Bank 2", U13 IO2 (io) "IO for Bank 2", U18 IO4 (io) "IO for Bank 4", U19 IO4 (io) "IO for Bank 4", U20 IO4 (io) "IO for Bank 4", U21 IO4 (io) "IO for Bank 4", U22 IO4 (io) "IO for Bank 4", U23 IO4 (io) "IO for Bank 4", U24 IO4 (io) "IO for Bank 4", V13 IO2 (io) "IO for Bank 2", V19 IO4 (io) "IO for Bank 4", V20 IO4 (io) "IO for Bank 4", V22 IO4 (io) "IO for Bank 4", V23 IO4 (io) "IO for Bank 4", V24 IO4 (io) "IO for Bank 4", W10 IO2 (io) "IO for Bank 2", W13 IO2 (io) "IO for Bank 2", W14 IO2 (io) "IO for Bank 2", W20 IO4 (io) "IO for Bank 4", W21 IO4 (io) "IO for Bank 4", W22 IO4 (io) "IO for Bank 4", W23 IO4 (io) "IO for Bank 4", W24 IO4 (io) "IO for Bank 4", Y9 IO2 (io) "IO for Bank 2", Y10 IO2 (io) "IO for Bank 2", Y13 IO2 (io) "IO for Bank 2", Y14 IO2 (io) "IO for Bank 2", Y21 IO4 (io) "IO for Bank 4", Y22 IO4 (io) "IO for Bank 4", Y23 IO4 (io) "IO for Bank 4", Y24 IO4 (io) "IO for Bank 4"
part B pins: A3 IO7 (io) "IO for Bank 7", A4 IO7 (io) "IO for Bank 7", A5 IO7 (io) "IO for Bank 7", A7 IO7 (io) "IO for Bank 7", A8 IO7 (io) "IO for Bank 7", A9 IO7 (io) "IO for Bank 7", AA5 IO1 (io) "IO for Bank 1", AA17 IO3 (io) "IO for Bank 3", AA18 IO3 (io) "IO for Bank 3", AA19 IO3 (io) "IO for Bank 3", AA20 IO3 (io) "IO for Bank 3", AB14 IO3 (io) "IO for Bank 3", AB16 IO3 (io) "IO for Bank 3", AB17 IO3 (io) "IO for Bank 3", AB18 IO3 (io) "IO for Bank 3", AB19 IO3 (io) "IO for Bank 3", AB20 IO3 (io) "IO for Bank 3", AB21 IO3 (io) "IO for Bank 3", AB22 IO3 (io) "IO for Bank 3", AB23 IO3 (io) "IO for Bank 3", AB24 IO3 (io) "IO for Bank 3", AC14 IO3 (io) "IO for Bank 3", AC15 IO3 (io) "IO for Bank 3", AC17 IO3 (io) "IO for Bank 3", AC18 IO3 (io) "IO for Bank 3", AC19 IO3 (io) "IO for Bank 3", AC22 IO3 (io) "IO for Bank 3", AD15 IO3 (io) "IO for Bank 3", AD16 IO3 (io) "IO for Bank 3", AD17 IO3 (io) "IO for Bank 3", AD18 IO3 (io) "IO for Bank 3", AD19 IO3 (io) "IO for Bank 3", AD20 IO3 (io) "IO for Bank 3", AD22 IO3 (io) "IO for Bank 3", AE15 IO3 (io) "IO for Bank 3", AE16 IO3 (io) "IO for Bank 3", AE17 IO3 (io) "IO for Bank 3", AE18 IO3 (io) "IO for Bank 3", AE19 IO3 (io) "IO for Bank 3", AE20 IO3 (io) "IO for Bank 3", AE22 IO3 (io) "IO for Bank 3", AE23 IO3 (io) "IO for Bank 3", AF18 IO3 (io) "IO for Bank 3", AF19 IO3 (io) "IO for Bank 3", AF20 IO3 (io) "IO for Bank 3", AF22 IO3 (io) "IO for Bank 3", AF23 IO3 (io) "IO for Bank 3", AF24 IO3 (io) "IO for Bank 3", B3 IO7 (io) "IO for Bank 7", B4 IO7 (io) "IO for Bank 7", B5 IO7 (io) "IO for Bank 7", B7 IO7 (io) "IO for Bank 7", B8 IO7 (io) "IO for Bank 7", B9 IO7 (io) "IO for Bank 7", B10 IO7 (io) "IO for Bank 7", B11 IO7 (io) "IO for Bank 7", B12 IO7 (io) "IO for Bank 7", C7 IO7 (io) "IO for Bank 7", C8 IO7 (io) "IO for Bank 7", C9 IO7 (io) "IO for Bank 7", C10 IO7 (io) "IO for Bank 7", C11 IO7 (io) "IO for Bank 7", C12 IO7 (io) "IO for Bank 7", D5 IO7 (io) "IO for Bank 7", D7 IO7 (io) "IO for Bank 7", D8 IO7 (io) "IO for Bank 7", D9 IO7 (io) "IO for Bank 7", D12 IO7 (io) "IO for Bank 7", D13 IO7 (io) "IO for Bank 7", E3 IO7 (io) "IO for Bank 7", E4 IO7 (io) "IO for Bank 7", E5 IO7 (io) "IO for Bank 7", E6 IO7 (io) "IO for Bank 7", E7 IO7 (io) "IO for Bank 7", E8 IO7 (io) "IO for Bank 7", E9 IO7 (io) "IO for Bank 7", E10 IO7 (io) "IO for Bank 7", E11 IO7 (io) "IO for Bank 7", E13 IO7 (io) "IO for Bank 7", F7 IO7 (io) "IO for Bank 7", F8 IO7 (io) "IO for Bank 7", F9 IO7 (io) "IO for Bank 7", F10 IO7 (io) "IO for Bank 7", F22 IO5 (io) "IO for Bank 5", G8 IO7 (io) "IO for Bank 7", G9 IO7 (io) "IO for Bank 7", G10 IO7 (io) "IO for Bank 7", G22 IO5 (io) "IO for Bank 5", G23 IO5 (io) "IO for Bank 5", G24 IO5 (io) "IO for Bank 5", H9 IO7 (io) "IO for Bank 7", H10 IO7 (io) "IO for Bank 7", H13 IO7 (io) "IO for Bank 7", H21 IO5 (io) "IO for Bank 5", H22 IO5 (io) "IO for Bank 5", H23 IO5 (io) "IO for Bank 5", H24 IO5 (io) "IO for Bank 5", J10 IO7 (io) "IO for Bank 7", J12 IO7 (io) "IO for Bank 7", J13 IO7 (io) "IO for Bank 7", J20 IO5 (io) "IO for Bank 5", J21 IO5 (io) "IO for Bank 5", J22 IO5 (io) "IO for Bank 5", J23 IO5 (io) "IO for Bank 5", J24 IO5 (io) "IO for Bank 5", K10 IO7 (io) "IO for Bank 7", K11 IO7 (io) "IO for Bank 7", K12 IO7 (io) "IO for Bank 7", K13 IO7 (io) "IO for Bank 7", K18 IO5 (io) "IO for Bank 5", K19 IO5 (io) "IO for Bank 5", K20 IO5 (io) "IO for Bank 5", K21 IO5 (io) "IO for Bank 5", K22 IO5 (io) "IO for Bank 5", K23 IO5 (io) "IO for Bank 5", K24 IO5 (io) "IO for Bank 5", L11 IO7 (io) "IO for Bank 7", L16 IO5 (io) "IO for Bank 5", L17 IO5 (io) "IO for Bank 5", L21 IO5 (io) "IO for Bank 5", M17 IO5 (io) "IO for Bank 5", M21 IO5 (io) "IO for Bank 5", M22 IO5 (io) "IO for Bank 5", M23 IO5 (io) "IO for Bank 5", M24 IO5 (io) "IO for Bank 5", N17 IO5 (io) "IO for Bank 5", N19 IO5 (io) "IO for Bank 5", N20 IO5 (io) "IO for Bank 5", N21 IO5 (io) "IO for Bank 5", N22 IO5 (io) "IO for Bank 5", N23 IO5 (io) "IO for Bank 5", P4 IO1 (io) "IO for Bank 1", P5 IO1 (io) "IO for Bank 1", P6 IO1 (io) "IO for Bank 1", P7 IO1 (io) "IO for Bank 1", P8 IO1 (io) "IO for Bank 1", P9 IO1 (io) "IO for Bank 1", P10 IO1 (io) "IO for Bank 1", P11 IO1 (io) "IO for Bank 1", P20 IO5 (io) "IO for Bank 5", P21 IO5 (io) "IO for Bank 5", R3 IO1 (io) "IO for Bank 1", R4 IO1 (io) "IO for Bank 1", R5 IO1 (io) "IO for Bank 1", R6 IO1 (io) "IO for Bank 1", R10 IO1 (io) "IO for Bank 1", R11 IO1 (io) "IO for Bank 1", T6 IO1 (io) "IO for Bank 1", T14 IO3 (io) "IO for Bank 3", T15 IO3 (io) "IO for Bank 3", T16 IO3 (io) "IO for Bank 3", U3 IO1 (io) "IO for Bank 1", U4 IO1 (io) "IO for Bank 1", U5 IO1 (io) "IO for Bank 1", U6 IO1 (io) "IO for Bank 1", U7 IO1 (io) "IO for Bank 1", U8 IO1 (io) "IO for Bank 1", U14 IO3 (io) "IO for Bank 3", U15 IO3 (io) "IO for Bank 3", U16 IO3 (io) "IO for Bank 3", U17 IO3 (io) "IO for Bank 3", V3 IO1 (io) "IO for Bank 1", V4 IO1 (io) "IO for Bank 1", V5 IO1 (io) "IO for Bank 1", V7 IO1 (io) "IO for Bank 1", V8 IO1 (io) "IO for Bank 1", V14 IO3 (io) "IO for Bank 3", V17 IO3 (io) "IO for Bank 3", W3 IO1 (io) "IO for Bank 1", W4 IO1 (io) "IO for Bank 1", W5 IO1 (io) "IO for Bank 1", W6 IO1 (io) "IO for Bank 1", W7 IO1 (io) "IO for Bank 1", W17 IO3 (io) "IO for Bank 3", W18 IO3 (io) "IO for Bank 3", Y3 IO1 (io) "IO for Bank 1", Y4 IO1 (io) "IO for Bank 1", Y5 IO1 (io) "IO for Bank 1", Y6 IO1 (io) "IO for Bank 1", Y17 IO3 (io) "IO for Bank 3", Y18 IO3 (io) "IO for Bank 3", Y19 IO3 (io) "IO for Bank 3"
part C pins: AA3 IO/VREF1 (io) "IO or Reference Voltage for Bank 1", AA7 Reset (out) "Reset signal to interface with the external boot PROM", AA11 IO/VREF2 (io) "IO or Reference Voltage for Bank 2", AA12 IO/VREF2 (io) "IO or Reference Voltage for Bank 2", AA15 IO/VREF3 (io) "IO or Reference Voltage for Bank 3", AA16 IO/VREF3 (io) "IO or Reference Voltage for Bank 3", AA24 IO/VREF4 (io) "IO or Reference Voltage for Bank 4", AB12 IO/VREF2 (io) "IO or Reference Voltage for Bank 2", AB15 IO/VREF3 (io) "IO or Reference Voltage for Bank 3", AC7 IO/VREF2 (io) "IO or Reference Voltage for Bank 2", AC20 IO/VREF3 (io) "IO or Reference Voltage for Bank 3", AD5 IO/VREF2 (io) "IO or Reference Voltage for Bank 2", AD6 IO/VREF2 (io) "IO or Reference Voltage for Bank 2", AD21 IO/VREF3 (io) "IO or Reference Voltage for Bank 3", AE21 IO/VREF3 (io) "IO or Reference Voltage for Bank 3", B21 IO/VREF6 (io) "IO or Reference Voltage for Bank 6", C5 IO/VREF7 (io) "IO or Reference Voltage for Bank 7", C6 IO/VREF7 (io) "IO or Reference Voltage for Bank 7", C21 IO/VREF6 (io) "IO or Reference Voltage for Bank 6", D10 IO/VREF7 (io) "IO or Reference Voltage for Bank 7", D17 IO/VREF6 (io) "IO or Reference Voltage for Bank 6", E12 IO/VREF7 (io) "IO or Reference Voltage for Bank 7", E15 IO/VREF6 (io) "IO or Reference Voltage for Bank 6", F3 IO/VREF0 (io) "IO or Reference Voltage for Bank 0", F11 IO/VREF7 (io) "IO or Reference Voltage for Bank 7", F12 IO/VREF7 (io) "IO or Reference Voltage for Bank 7", F15 IO/VREF6 (io) "IO or Reference Voltage for Bank 6", F16 IO/VREF6 (io) "IO or Reference Voltage for Bank 6", F24 IO/VREF5 (io) "IO or Reference Voltage for Bank 5", G13 IO/VREF7 (io) "IO or Reference Voltage for Bank 7", G14 IO/VREF6 (io) "IO or Reference Voltage for Bank 6", G21 TDO (out) "JTAG Test Data Out", H20 TDI (in) "JTAG Test Data In", J11 IO/VREF7 (io) "IO or Reference Voltage for Bank 7", J16 IO/VREF6 (io) "IO or Reference Voltage for Bank 6", J19 TCLK (in) "JTAG Test Clock", K17 TMS (in) "JTAG Test Mode Select", L3 IO/VREF0 (io) "IO or Reference Voltage for Bank 0", L5 IO/VREF0 (io) "IO or Reference Voltage for Bank 0", L9 IO/VREF0 (io) "IO or Reference Voltage for Bank 0", L12 GCTL3 (in) "Global Control signal 3", L13 GCLK3 (in) "Global Clock signal 3", L14 GCTL2 (in) "Global Control signal 2", L15 GCLK2 (in) "Global Clock signal 2", L18 IO/VREF5 (io) "IO or Reference Voltage for Bank 5", L22 IO/VREF5 (io) "IO or Reference Voltage for Bank 5", L24 IO/VREF5 (io) "IO or Reference Voltage for Bank 5", M9 IO/VREF0 (io) "IO or Reference Voltage for Bank 0", M11 GCTL0 (in) "Global Control signal 0", M16 GCTL1 (in) "Global Control signal 1", M18 IO/VREF5 (io) "IO or Reference Voltage for Bank 5", N9 IO/VREF0 (io) "IO or Reference Voltage for Bank 0", N11 GCLK0 (in) "Global Clock signal 0", N16 GCLK1 (in) "Global Clock signal 1", N18 IO/VREF5 (io) "IO or Reference Voltage for Bank 5", R9 IO/VREF1 (io) "IO or Reference Voltage for Bank 1", R18 IO/VREF4 (io) "IO or Reference Voltage for Bank 4", T3 IO/VREF1 (io) "IO or Reference Voltage for Bank 1", T5 IO/VREF1 (io) "IO or Reference Voltage for Bank 1", T9 IO/VREF1 (io) "IO or Reference Voltage for Bank 1", T11 Config_Done (out) "Flag indicating that configuration is complete", T18 IO/VREF4 (io) "IO or Reference Voltage for Bank 4", T22 IO/VREF4 (io) "IO or Reference Voltage for Bank 4", T24 IO/VREF4 (io) "IO or Reference Voltage for Bank 4", U9 Data (in) "Pin to receive configuration data from the external boot PROM", U10 Reconfig (in) "Pin to start configuration of Delta39K", V6 IO/VREF1 (io) "IO or Reference Voltage for Bank 1", V10 MSEL (in) "Mode Select Pin", V11 IO/VREF2 (io) "IO or Reference Voltage for Bank 2", V12 IO/VREF2 (io) "IO or Reference Voltage for Bank 2", V15 IO/VREF3 (io) "IO or Reference Voltage for Bank 3", V16 IO/VREF3 (io) "IO or Reference Voltage for Bank 3", V21 IO/VREF4 (io) "IO or Reference Voltage for Bank 4", W9 ~{CCE} (out) "Chip select for the external boot PROM (active low)", Y8 CCLK (out) "Configuration Clock for serial interface with the external boot PROM"
part D pins: A1 GND (power) "Ground", A6 VCCIO7 (power) "VCC for I/O bank 7", A11 VCCIO7 (power) "VCC for I/O bank 7", A13 GND (power) "Ground", A14 GND (power) "Ground", A16 VCCIO6 (power) "VCC for I/O bank 6", A21 VCCIO6 (power) "VCC for I/O bank 6", A26 GND (power) "Ground", AA4 VCCIO1 (power) "VCC for I/O bank 1", AA6 GND (power) "Ground", AA21 GND (power) "Ground", AA23 VCCIO4 (power) "VCC for I/O bank 4", AC3 GND (power) "Ground", AC4 GND (power) "Ground", AC6 VCCIO2 (power) "VCC for I/O bank 2", AC11 VCCIO2 (power) "VCC for I/O bank 2", AC16 VCCIO3 (power) "VCC for I/O bank 3", AC21 VCCIO3 (power) "VCC for I/O bank 3", AC23 GND (power) "Ground", AC24 GND (power) "Ground", AD3 GND (power) "Ground", AD4 GND (power) "Ground", AD13 GND (power) "Ground", AD14 GND (power) "Ground", AD23 GND (power) "Ground", AD24 GND (power) "Ground", AE2 GND (power) "Ground", AE13 GND (power) "Ground", AE14 GND (power) "Ground", AE25 GND (power) "Ground", AF1 GND (power) "Ground", AF6 VCCIO2 (power) "VCC for I/O bank 2", AF11 VCCIO2 (power) "VCC for I/O bank 2", AF13 GND (power) "Ground", AF14 GND (power) "Ground", AF16 VCCIO3 (power) "VCC for I/O bank 3", AF21 VCCIO3 (power) "VCC for I/O bank 3", AF26 GND (power) "Ground", B2 GND (power) "Ground", B13 GND (power) "Ground", B14 GND (power) "Ground", B25 GND (power) "Ground", C3 GND (power) "Ground", C4 GND (power) "Ground", C13 GND (power) "Ground", C14 GND (power) "Ground", C23 GND (power) "Ground", C24 GND (power) "Ground", D3 GND (power) "Ground", D4 GND (power) "Ground", D6 VCCIO7 (power) "VCC for I/O bank 7", D11 VCCIO7 (power) "VCC for I/O bank 7", D16 VCCIO6 (power) "VCC for I/O bank 6", D21 VCCIO6 (power) "VCC for I/O bank 6", D23 GND (power) "Ground", D24 GND (power) "Ground", F4 VCCIO0 (power) "VCC for I/O bank 0", F6 GND (power) "Ground", F21 GND (power) "Ground", F23 VCCIO5 (power) "VCC for I/O bank 5", G7 GND (power) "Ground", G11 VCCIO7 (power) "VCC for I/O bank 7", G12 VCC (power) "Operating Voltage", G15 VCCPLL (power) "VCC for PLL", G16 VCCIO6 (power) "VCC for I/O bank 6", G20 GND (power) "Ground", H8 GND (power) "Ground", H11 VCCIO7 (power) "VCC for I/O bank 7", H12 VCCIO7 (power) "VCC for I/O bank 7", H15 VCCIO6 (power) "VCC for I/O bank 6", H16 VCCIO6 (power) "VCC for I/O bank 6", H19 GND (power) "Ground", J9 GND (power) "Ground", J18 GND (power) "Ground", L4 VCCIO0 (power) "VCC for I/O bank 0", L7 VCC (power) "Operating Voltage", L8 VCCIO0 (power) "VCC for I/O bank 0", L19 VCCIO5 (power) "VCC for I/O bank 5", L20 VCCJTAG (power) "VCC for JTAG pins", L23 VCCIO5 (power) "VCC for I/O bank 5", M7 VCC (power) "Operating Voltage", M8 VCCIO0 (power) "VCC for I/O bank 0", M12 GND (power) "Ground", M13 GND (power) "Ground", M14 GND (power) "Ground", M15 GND (power) "Ground", M19 VCCIO5 (power) "VCC for I/O bank 5", M20 VCC (power) "Operating Voltage", N1 GND (power) "Ground", N2 GND (power) "Ground", N3 GND (power) "Ground", N12 GND (power) "Ground", N13 GND (power) "Ground", N14 GND (power) "Ground", N15 GND (power) "Ground", N24 GND (power) "Ground", N25 GND (power) "Ground", N26 GND (power) "Ground", P1 GND (power) "Ground", P2 GND (power) "Ground", P3 GND (power) "Ground", P12 GND (power) "Ground", P13 GND (power) "Ground", P14 GND (power) "Ground", P15 GND (power) "Ground", P24 GND (power) "Ground", P25 GND (power) "Ground", P26 GND (power) "Ground", R7 VCCPRG (power) "VCC for programming Self-Boot solution embedded boot PROM", R8 VCCIO1 (power) "VCC for I/O bank 1", R12 GND (power) "Ground", R13 GND (power) "Ground", R14 GND (power) "Ground", R15 GND (power) "Ground", R19 VCCIO4 (power) "VCC for I/O bank 4", R20 VCCPRG (power) "VCC for programming Self-Boot solution embedded boot PROM", T4 VCCIO1 (power) "VCC for I/O bank 1", T7 VCC (power) "Operating Voltage", T8 VCCIO1 (power) "VCC for I/O bank 1", T10 VCCCNFG (power) "VCC for Configuration port", T19 VCCIO4 (power) "VCC for I/O bank 4", T20 VCC (power) "Operating Voltage", T23 VCCIO4 (power) "VCC for I/O bank 4", V9 GND (power) "Ground", V18 GND (power) "Ground", W8 GND (power) "Ground", W11 VCCIO2 (power) "VCC for I/O bank 2", W12 VCCIO2 (power) "VCC for I/O bank 2", W15 VCCIO3 (power) "VCC for I/O bank 3", W16 VCCIO3 (power) "VCC for I/O bank 3", W19 GND (power) "Ground", Y7 GND (power) "Ground", Y11 VCCCNFG (power) "VCC for Configuration port", Y12 VCCIO2 (power) "VCC for I/O bank 2", Y15 VCC (power) "Operating Voltage", Y16 VCCIO3 (power) "VCC for I/O bank 3", Y20 GND (power) "Ground"
part E pins: A2 NC "No Connection", A10 NC "No Connection", A12 NC "No Connection", A15 NC "No Connection", A17 NC "No Connection", A25 NC "No Connection", AA1 NC "No Connection", AA2 NC "No Connection", AA25 NC "No Connection", AA26 NC "No Connection", AB1 NC "No Connection", AB2 NC "No Connection", AB25 NC "No Connection", AB26 NC "No Connection", AC1 NC "No Connection", AC2 NC "No Connection", AC25 NC "No Connection", AC26 NC "No Connection", AD1 NC "No Connection", AD2 NC "No Connection", AD25 NC "No Connection", AD26 NC "No Connection", AE1 NC "No Connection", AE6 NC "No Connection", AE24 NC "No Connection", AE26 NC "No Connection", AF2 NC "No Connection", AF10 NC "No Connection", AF12 NC "No Connection", AF15 NC "No Connection", AF17 NC "No Connection", AF25 NC "No Connection", B1 NC "No Connection", B6 NC "No Connection", B24 NC "No Connection", B26 NC "No Connection", C1 NC "No Connection", C2 NC "No Connection", C25 NC "No Connection", C26 NC "No Connection", D1 NC "No Connection", D2 NC "No Connection", D25 NC "No Connection", D26 NC "No Connection", E1 NC "No Connection", E2 NC "No Connection", E25 NC "No Connection", E26 NC "No Connection", F1 NC "No Connection", F2 NC "No Connection", F25 NC "No Connection", F26 NC "No Connection", G1 NC "No Connection", G2 NC "No Connection", G25 NC "No Connection", G26 NC "No Connection", H1 NC "No Connection", H2 NC "No Connection", H25 NC "No Connection", H26 NC "No Connection", J1 NC "No Connection", J2 NC "No Connection", J25 NC "No Connection", J26 NC "No Connection", K1 NC "No Connection", K2 NC "No Connection", K25 NC "No Connection", K26 NC "No Connection", L1 NC "No Connection", L2 NC "No Connection", L25 NC "No Connection", L26 NC "No Connection", M1 NC "No Connection", M2 NC "No Connection", M25 NC "No Connection", M26 NC "No Connection", R1 NC "No Connection", R2 NC "No Connection", R25 NC "No Connection", R26 NC "No Connection", T1 NC "No Connection", T2 NC "No Connection", T25 NC "No Connection", T26 NC "No Connection", U1 NC "No Connection", U2 NC "No Connection", U25 NC "No Connection", U26 NC "No Connection", V1 NC "No Connection", V2 NC "No Connection", V25 NC "No Connection", V26 NC "No Connection", W1 NC "No Connection", W2 NC "No Connection", W25 NC "No Connection", W26 NC "No Connection", Y1 NC "No Connection", Y2 NC "No Connection", Y25 NC "No Connection", Y26 NC "No Connection"